# Altium schematic symbol library Sub-board.SCHLIB: 50 symbols
Pins are listed as number, name and electrical type; pins without a type are passive.

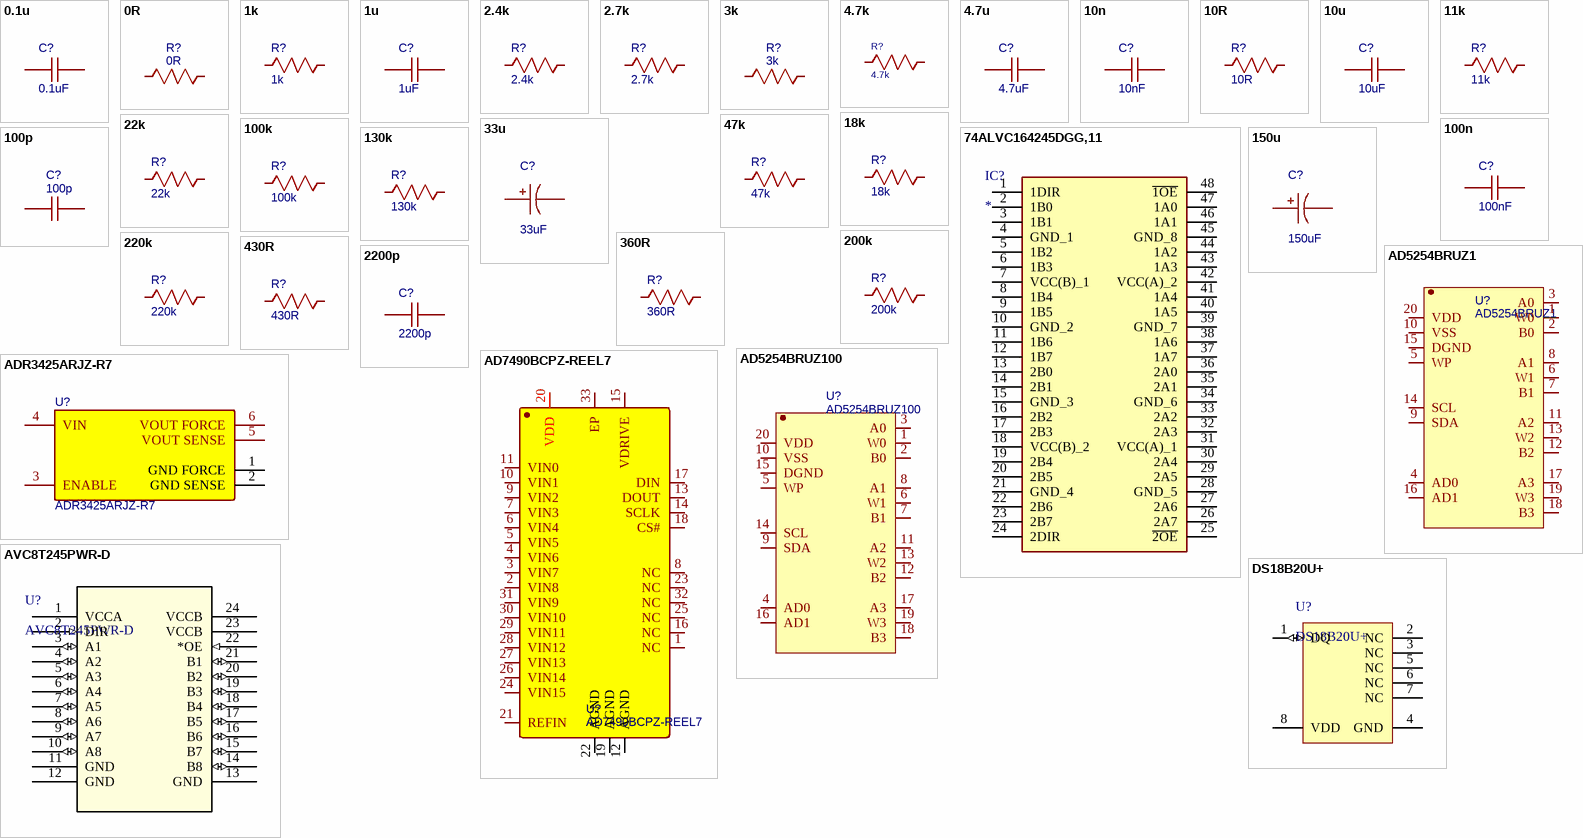
[diagram p0: symbols 0.1u to DS18B20U+]

## 0.1u
designator C?, comment 0.1uF
Contributor: LCEDA_Lib; nameAlias: Value(F); spicePre: C; spiceSymbolName: C_0603_US
footprint C0603
footprint CAP0402
pins: 1, 2

## 0R
designator R?
nameAlias: Value(Ω); Contributor: LCEDA_Lib; spicePre: R; spiceSymbolName: R_0603_US
footprint RES0402
footprint R0603
pins: 1, 2

## 1k
designator R?
nameAlias: Value(Ω); Contributor: LCEDA_Lib; spicePre: R; spiceSymbolName: R_0603_US
footprint R0603
footprint RES0402
pins: 1, 2

## 1u
designator C?, comment 1uF
nameAlias: Value(F); Contributor: LCEDA_Lib; spicePre: C; spiceSymbolName: C_0603_US
footprint CAP0402
footprint C0603
pins: 1, 2

## 2.4k
designator R?
nameAlias: Value(Ω); Contributor: LCEDA_Lib; spicePre: R; spiceSymbolName: R_0603_US
footprint R0603
footprint RES0402
pins: 1, 2

## 2.7k
designator R?
nameAlias: Value(Ω); Contributor: LCEDA_Lib; spicePre: R; spiceSymbolName: R_0603_US
footprint R0603
footprint RES0402
pins: 1, 2

## 3k
designator R?
nameAlias: Value(Ω); Contributor: LCEDA_Lib; spicePre: R; spiceSymbolName: R_0603_US
footprint R0603
footprint RES0402
pins: 1, 2

## 4.7k
designator R?
nameAlias: Value(Ω); Contributor: LCEDA_Lib; spicePre: R; spiceSymbolName: R_0603_US
footprint R0603
footprint RES0402
pins: 1, 2

## 4.7u
designator C?, comment 4.7uF
nameAlias: Value(F); Contributor: LCEDA_Lib; spicePre: C; spiceSymbolName: C_0603_US
footprint CAP0402
footprint C0603
pins: 1, 2

## 10n
designator C?, comment 10nF
nameAlias: Value(F); Contributor: LCEDA_Lib; spicePre: C; spiceSymbolName: C_0603_US
footprint C0603
footprint CAP0402
pins: 1, 2

## 10R
designator R?
nameAlias: Value(Ω); Contributor: LCEDA_Lib; spicePre: R; spiceSymbolName: R_0603_US
footprint R0603
footprint RES0402
pins: 1, 2

## 10u
designator C?, comment 10uF
nameAlias: Value(F); Contributor: LCEDA_Lib; spicePre: C; spiceSymbolName: C_0603_US
footprint C0603
footprint CAP0402
pins: 1, 2

## 11k
designator R?
nameAlias: Value(Ω); Contributor: LCEDA_Lib; spicePre: R; spiceSymbolName: R_0603_US
footprint R0603
footprint RES0402
pins: 1, 2

## 18k
designator R?
nameAlias: Value(Ω); Contributor: LCEDA_Lib; spicePre: R; spiceSymbolName: R_0603_US
footprint R0603
footprint RES0402
pins: 1, 2

## 22k
designator R?
nameAlias: Value(Ω); Contributor: LCEDA_Lib; spicePre: R; spiceSymbolName: R_0603_US
footprint R0603
footprint RES0402
pins: 1, 2

## 33u
designator C?, comment 33uF
nameAlias: Value(F); Contributor: LCEDA_Lib; spicePre: C; spiceSymbolName: C_Tan_SMD_A_US
footprint CASE-A_3216
pins: 1, 2

## 47k
designator R?
nameAlias: Value(Ω); Contributor: LCEDA_Lib; spicePre: R; spiceSymbolName: R_0603_US
footprint R0603
footprint RES0402
pins: 1, 2

## 74ALVC164245DGG,11
designator IC?
Integrated Circuit; Manufacturer_Name: Nexperia; Manufacturer_Part_Number: 74ALVC164245DGG,11; Datasheet Link: https://assets.nexperia.com/documents/data-sheet/74ALVC164245.pdf; Height: 1.2mm; Mouser Part Number: 771-74ALVC16424; Mouser Price/Stock: https://www.mouser.co.uk/ProductDetail/Nexperia/74ALVC164245DGG11/?qs=odJ8N4Y39o7U7wQRxrnAkg%3D%3D; Arrow Part Number: 74ALVC164245DGG,11; Arrow Price/Stock: https://www.arrow.com/en/products/74alvc164245dgg11/nexperia
footprint SOP50P810X120-48N
pins: 1 1DIR, 2 1B0, 3 1B1, 4 GND_1, 5 1B2, 6 1B3, 7 VCC(B)_1, 8 1B4, 9 1B5, 10 GND_2, 11 1B6, 12 1B7, 13 2B0, 14 2B1, 15 GND_3, 16 2B2, 17 2B3, 18 VCC(B)_2, 19 2B4, 20 2B5, 21 GND_4, 22 2B6, 23 2B7, 24 2DIR, 25 ~{2OE}, 26 2A7, 27 2A6, 28 GND_5, 29 2A5, 30 2A4, 31 VCC(A)_1, 32 2A3, 33 2A2, 34 GND_6, 35 2A1, 36 2A0, 37 1A7, 38 1A6, 39 GND_7, 40 1A5, 41 1A4, 42 VCC(A)_2, 43 1A3, 44 1A2, 45 GND_8, 46 1A1, 47 1A0, 48 ~{1OE}

## 100k
designator R?
nameAlias: Value(Ω); Contributor: LCEDA_Lib; spicePre: R; spiceSymbolName: R_0603_US
footprint R0603
footprint RES0402
pins: 1, 2

## 100n
designator C?, comment 100nF
nameAlias: Value(F); Contributor: LCEDA_Lib; spicePre: C; spiceSymbolName: C_0603_US
footprint CAP0402
footprint C0603
pins: 1, 2

## 100p
designator C?
nameAlias: Value(F); Contributor: LCEDA_Lib; spicePre: C; spiceSymbolName: C_0603_US
footprint CAP0402
footprint CAP0402
pins: 1, 2

## 130k
designator R?
nameAlias: Value(Ω); Contributor: LCEDA_Lib; spicePre: R; spiceSymbolName: R_0603_US
footprint R0603
footprint RES0402
pins: 1, 2

## 150u
designator C?, comment 150uF
nameAlias: Value(F); Contributor: LCEDA_Lib; spicePre: C; spiceSymbolName: C_Tan_SMD_A_US
footprint CASE-A_3216
pins: 1, 2

## 200k
designator R?
nameAlias: Value(Ω); Contributor: LCEDA_Lib; spicePre: R; spiceSymbolName: R_0603_US
footprint R0603
footprint RES0402
pins: 1, 2

## 220k
designator R?
nameAlias: Value(Ω); Contributor: LCEDA_Lib; spicePre: R; spiceSymbolName: R_0603_US
footprint R0603
footprint RES0402
pins: 1, 2

## 360R
designator R?
nameAlias: Value(Ω); Contributor: LCEDA_Lib; spicePre: R; spiceSymbolName: R_0603_US
footprint R0603
footprint RES0402
pins: 1, 2

## 430R
designator R?
nameAlias: Value(Ω); Contributor: LCEDA_Lib; spicePre: R; spiceSymbolName: R_0603_US
footprint R0603
footprint RES0402
pins: 1, 2

## 2200p
designator C?
nameAlias: Value(F); Contributor: LCEDA_Lib; spicePre: C; spiceSymbolName: C_0603_US
footprint C0603
footprint CAP0402
pins: 1, 2

## AD5254BRUZ1
designator U?
spicePre: X; spiceSymbolName: AD5254BRUZ1
footprint TSSOP-20
pins: 1 W0, 2 B0, 3 A0, 4 AD0, 5 WP, 6 W1, 7 B1, 8 A1, 9 SDA, 10 VSS, 11 A2, 12 B2, 13 W2, 14 SCL, 15 DGND, 16 AD1, 17 A3, 18 B3, 19 W3, 20 VDD

## AD5254BRUZ100
designator U?
spicePre: X; spiceSymbolName: AD5254BRUZ100
footprint TSSOP-20
pins: 1 W0, 2 B0, 3 A0, 4 AD0, 5 WP, 6 W1, 7 B1, 8 A1, 9 SDA, 10 VSS, 11 A2, 12 B2, 13 W2, 14 SCL, 15 DGND, 16 AD1, 17 A3, 18 B3, 19 W3, 20 VDD

## AD7490BCPZ-REEL7
designator U?
BOM_Manufacturer: Analog Devices; Contributor: LCSC; SMT Type: Extend; BOM_Supplier: LCSC; BOM_Supplier Part: C651094; BOM_Manufacturer Part: AD7490BCPZ-REEL7; BOM_JLCPCB SMD: Yes; spicePre: U; spiceSymbolName: AD7490BCPZ-REEL7
footprint LFCSP-32_L5.0-W5.0-P0.50-BL-EP3.1
pins: 1 NC, 2 VIN8, 3 VIN7, 4 VIN6, 5 VIN5, 6 VIN4, 7 VIN3, 8 NC, 9 VIN2, 10 VIN1, 11 VIN0, 12 AGND, 13 DOUT, 14 SCLK, 15 VDRIVE, 16 NC, 17 DIN, 18 CS#, 19 AGND, 20 VDD, 21 REFIN, 22 AGND, 23 NC, 24 VIN15, 25 NC, 26 VIN14, 27 VIN13, 28 VIN12, 29 VIN11, 30 VIN10, 31 VIN9, 32 NC, 33 EP

## ADR3425ARJZ-R7
designator U?
BOM_Manufacturer: ADI; SMT Type: Extend; BOM_Supplier: LCSC; BOM_Manufacturer Part: ADR3425ARJZ-R7; BOM_Supplier Part: C60864; BOM_JLCPCB SMD: Yes; spicePre: U; spiceSymbolName: ADR3425ARJZ-R7
footprint SOT-23-6_L2.9-W1.6-P0.95-LS2.8-BR
pins: 1 GND FORCE, 2 GND SENSE, 3 ENABLE, 4 VIN, 5 VOUT SENSE, 6 VOUT FORCE

## AVC8T245PWR-D
designator U?
8-Bit Dual-Supply Bus Transceiver with Configurable Voltage Translation and 3-State Outputs; Manufacturer: Texas Instruments; GENERIC_PART_NUMBER: SN74AVC8T245; INDUSTRY_STD_PKG_TYPE: TSSOP; FAMILY_NAME: DIRECTION CONTROL DUAL SUPPLY TRANSLATOR; PIN_COUNT: 24; PACKAGE_DESIGNATOR: PW; Datasheet_URL: http://www.ti.com/lit/gpn/SN74AVC8T245; Vendor: Texas Instruments; Manufacturer_Part_Number: AVC8T245PWR-D; Copyright: Copyright (C) 2018 Accelerated Designs. All rights reserved; RefDes: RefDes; Type: DEV
footprint PW24
pins: 1 VCCA (power), 2 DIR (in), 3 A1 (io), 4 A2 (io), 5 A3 (io), 6 A4 (io), 7 A5 (io), 8 A6 (io), 9 A7 (io), 10 A8 (io), 11 GND (power), 12 GND (power), 13 GND (power), 14 B8 (io), 15 B7 (io), 16 B6 (io), 17 B5 (io), 18 B4 (io), 19 B3 (io), 20 B2 (io), 21 B1 (io), 22 *OE (in), 23 VCCB (power), 24 VCCB (power)

## DS18B20U+
designator U?
High-Precision 1-Wire Digital Thermometer, -55 to 125 degC, 8-Pin SOP (U8+1), Pb-Free; Sensor Type: Local; Multi Droppable: Yes; Temp. Thresh.: Programmable (NV); ComponentLink1Description: Manufacturer URL; ComponentLink2Description: Datasheet; DatasheetVersion: Rev. 4; Generic Part Number: DS18B20; ComponentLink3URL: http://pdfserv.maximintegrated.com/package_dwgs/21-0036.PDF; ComponentLink3Description: Package Specification; ComponentLink1URL: http://www.maximintegrated.com/; ComponentLink2URL: http://datasheets.maximintegrated.com/en/ds/DS18B20.pdf; Code_JEDEC: MO-187; PackageVersion: Rev. L, 08/2009; Parasite Pwr.: Yes; Interface: 1-Wire; PartNumber: DS18B20U+; PackageDescription: 8-Pin Micro-MAX, Thin Shrink Small-Outline (U8+1), Body 3 x 3 mm, Pitch 0.65 mm; Mounting Technology: Surface Mount; RoHS: Pb-Free; PackageReference: U8+1
footprint MAXM-U8+1_M
footprint MAXM-U8+1_N
footprint MAXM-U8+1_L
pins: 1 DQ (io) "Data Input/Output. Open-drain 1-Wire interface pin. Also provides power to the device when used in parasite power mode (see the Powering the DS18B20 section.)", 2 NC "No Connection", 3 NC "No Connection", 4 GND (power) "Ground", 5 NC "No Connection", 6 NC "No Connection", 7 NC "No Connection", 8 VDD (power) "Optional VDD. VDD must be grounded for operation in parasite power mode."

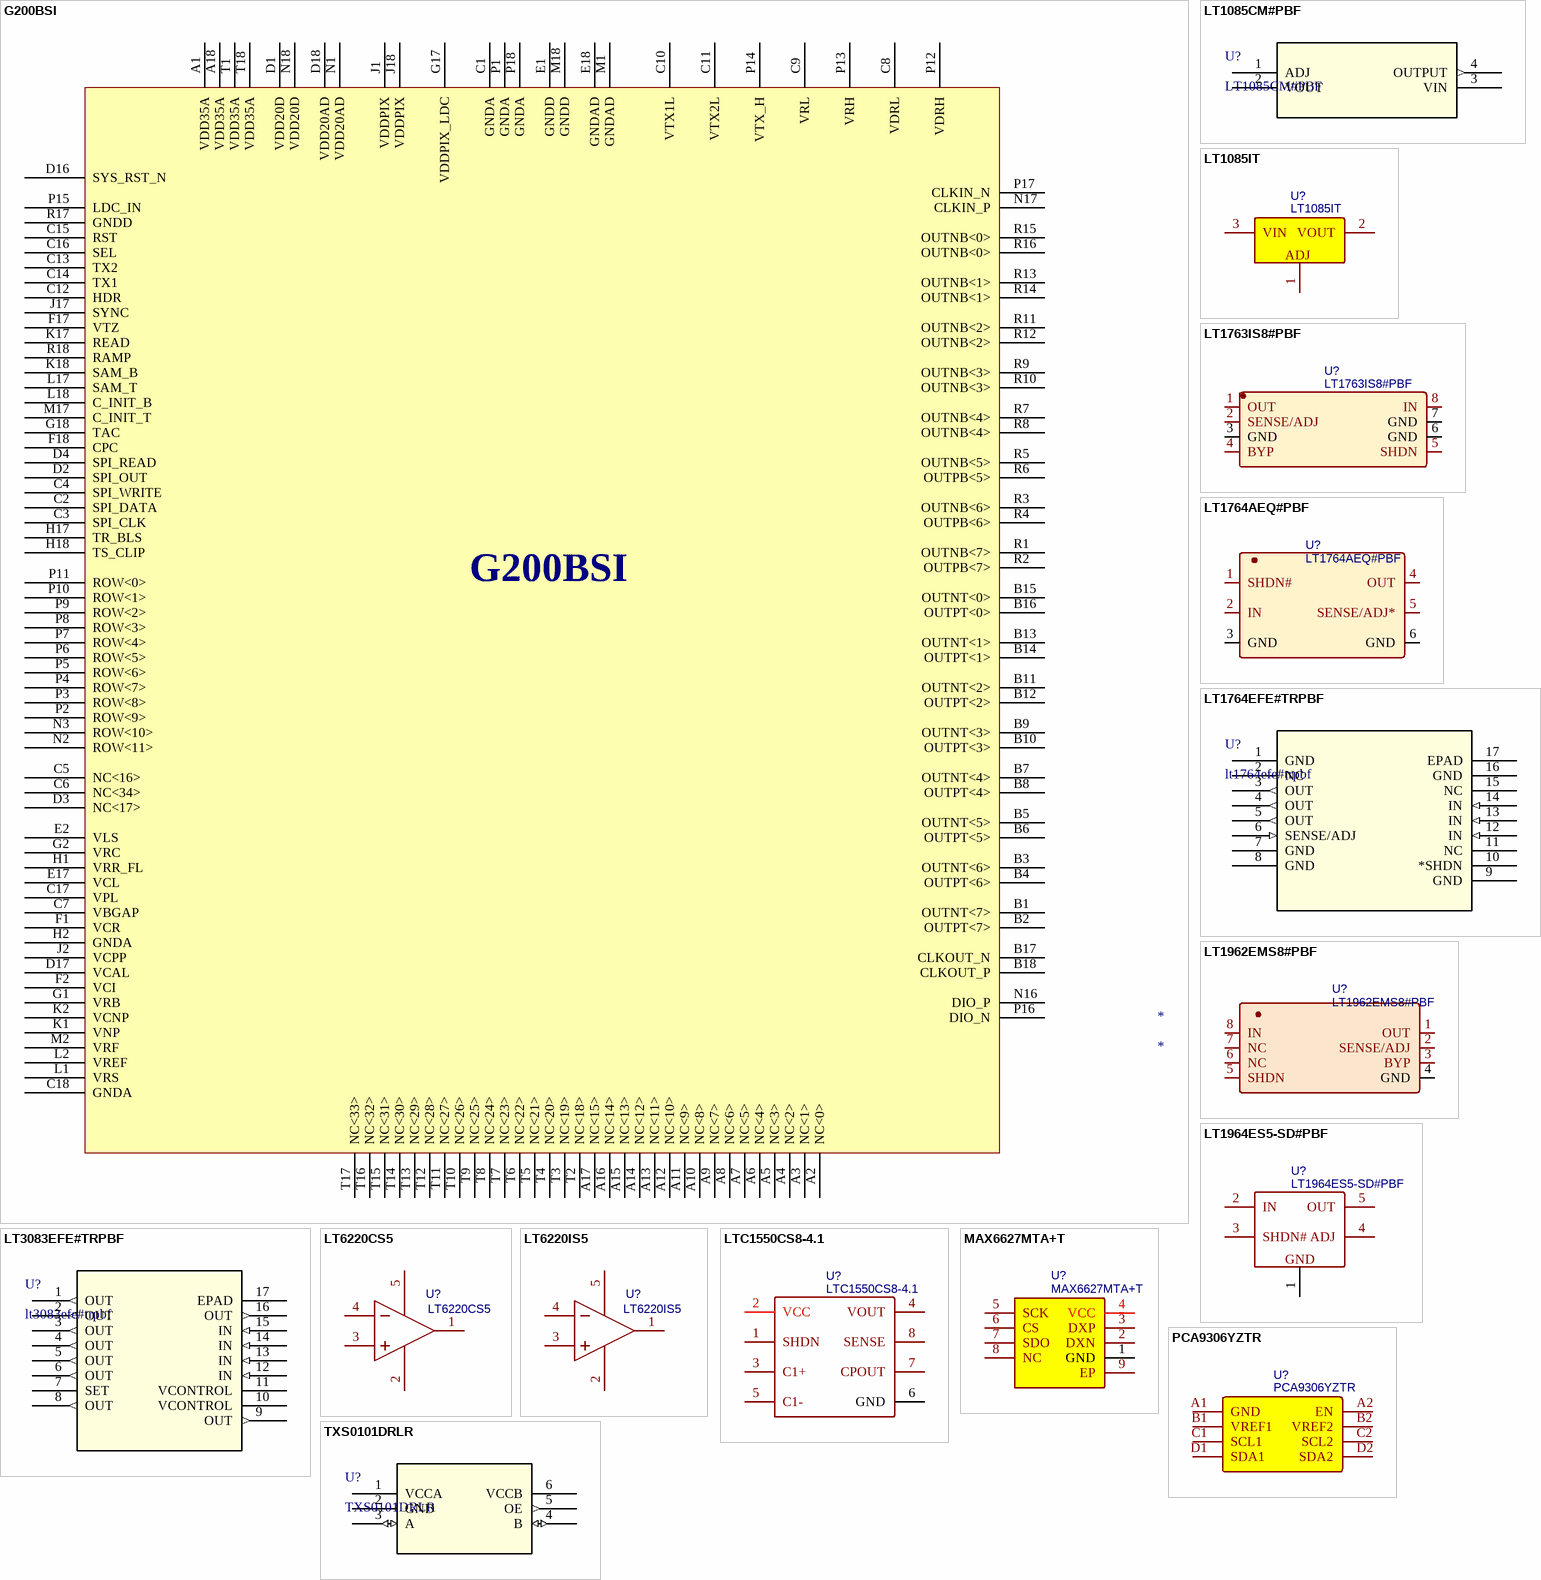
[diagram p1: symbols G200BSI to TXS0101DRLR]

## G200BSI
designator *
footprint ANDON Socket (10-18-04A-153-414T4-R27-L14)
pins: A1 VDD35A, A2 NC<0>, A3 NC<1>, A4 NC<2>, A5 NC<3>, A6 NC<4>, A7 NC<5>, A8 NC<6>, A9 NC<7>, A10 NC<8>, A11 NC<9>, A12 NC<10>, A13 NC<11>, A14 NC<12>, A15 NC<13>, A16 NC<14>, A17 NC<15>, A18 VDD35A, B1 OUTNT<7>, B2 OUTPT<7>, B3 OUTNT<6>, B4 OUTPT<6>, B5 OUTNT<5>, B6 OUTPT<5>, B7 OUTNT<4>, B8 OUTPT<4>, B9 OUTNT<3>, B10 OUTPT<3>, B11 OUTNT<2>, B12 OUTPT<2>, B13 OUTNT<1>, B14 OUTPT<1>, B15 OUTNT<0>, B16 OUTPT<0>, B17 CLKOUT_N, B18 CLKOUT_P, C1 GNDA, C2 SPI_DATA, C3 SPI_CLK, C4 SPI_WRITE, C5 NC<16>, C6 NC<34>, C7 VBGAP, C8 VDRL, C9 VRL, C10 VTX1L, C11 VTX2L, C12 HDR, C13 TX2, C14 TX1, C15 RST, C16 SEL, C17 VPL, C18 GNDA, D1 VDD20D, D2 SPI_OUT, D3 NC<17>, D4 SPI_READ, D16 SYS_RST_N, D17 VCAL, D18 VDD20AD, E1 GNDD, E2 VLS, E17 VCL, E18 GNDAD, F1 VCR, F2 VCI, F17 VTZ, F18 CPC, G1 VRB, G2 VRC, G17 VDDPIX_LDC, G18 TAC, H1 VRR_FL, H2 GNDA, H17 TR_BLS, H18 TS_CLIP, J1 VDDPIX, J2 VCPP, J17 SYNC, J18 VDDPIX, K1 VNP, K2 VCNP, K17 READ, K18 SAM_B, L1 VRS, L2 VREF, L17 SAM_T, L18 C_INIT_B, M1 GNDAD, M2 VRF, M17 C_INIT_T, M18 GNDD, N1 VDD20AD, N2 ROW<11>, N3 ROW<10>, N16 DIO_P, N17 CLKIN_P, N18 VDD20D, P1 GNDA, P2 ROW<9>, P3 ROW<8>, P4 ROW<7>, P5 ROW<6>, P6 ROW<5>, P7 ROW<4>, P8 ROW<3>, P9 ROW<2>, P10 ROW<1>, P11 ROW<0>, P12 VDRH, P13 VRH, P14 VTX_H, P15 LDC_IN, P16 DIO_N, P17 CLKIN_N, P18 GNDA, R1 OUTNB<7>, R2 OUTPB<7>, R3 OUTNB<6>, R4 OUTPB<6>, R5 OUTNB<5>, R6 OUTPB<5>, R7 OUTNB<4>, R8 OUTNB<4>, R9 OUTNB<3>, R10 OUTNB<3>, R11 OUTNB<2>, R12 OUTNB<2>, R13 OUTNB<1>, R14 OUTNB<1>, R15 OUTNB<0>, R16 OUTNB<0>, R17 GNDD, R18 RAMP, T1 VDD35A, T2 NC<18>, T3 NC<19>, T4 NC<20>, T5 NC<21>, T6 NC<22>, T7 NC<23>, T8 NC<24>, T9 NC<25>, T10 NC<26>, T11 NC<27>, T12 NC<28>, T13 NC<29>, T14 NC<30>, T15 NC<31>, T16 NC<32>, T17 NC<33>, T18 VDD35A

## LT1085CM#PBF
designator U?
No Description Available; Vendor: Linear Technology; Digikey_Part_Number: LT1085CM#PBF-ND; Manufacturer_Part_Number: LT1085CM#PBF; Copyright: Copyright (C) 2016 Accelerated Designs. All rights reserved; RefDes: RefDes; Type: DEV
footprint DDPAK-3_M
pins: 1 ADJ, 2 VOUT (power), 3 VIN (power), 4 OUTPUT (out)

## LT1085IT
designator U?
spicePre: U; spiceSymbolName: LT1085IT
footprint LT-T-3
pins: 1 ADJ, 2 VOUT, 3 VIN

## LT1763IS8#PBF
designator U?
BOM_Manufacturer: Linear Tech; Contributor: LCSC; SMT Type: Extend; BOM_Supplier: LCSC; BOM_Supplier Part: C117141; BOM_Manufacturer Part: LT1763IS8#PBF; BOM_JLCPCB SMD: Yes; spicePre: U; spiceSymbolName: LT1763IS8#PBF
footprint SOIC-8_L5.0-W3.2-P1.27-LS8.3-BL
pins: 1 OUT, 2 SENSE/ADJ, 3 GND, 4 BYP, 5 SHDN, 6 GND, 7 GND, 8 IN

## LT1764AEQ#PBF
designator U?
BOM_Manufacturer: Linear Tech; Contributor: LCSC; BOM_Supplier: LCSC; BOM_Supplier Part: C459712; BOM_Manufacturer Part: LT1764AEQ#PBF; spicePre: U; spiceSymbolName: LT1764AEQ#PBF
footprint DD-PAK-5_L10.6-W10.3-P1.70-LS14.5-BR
pins: 1 SHDN#, 2 IN, 3 GND, 4 OUT, 5 SENSE/ADJ*, 6 GND

## LT1764EFE#TRPBF
designator U?, comment lt1764efe#trpbf
No Description Available; Vendor: Linear Technology; Manufacturer_Part_Number: lt1764efe#trpbf; Copyright: Copyright (C) 2018 Accelerated Designs. All rights reserved; RefDes: RefDes; Type: DEV
footprint TSSOP-16_FE/BB
pins: 1 GND (power), 2 NC, 3 OUT (out), 4 OUT (out), 5 OUT (out), 6 SENSE/ADJ (in), 7 GND (power), 8 GND (power), 9 GND (power), 10 *SHDN, 11 NC, 12 IN (in), 13 IN (in), 14 IN (in), 15 NC, 16 GND (power), 17 EPAD

## LT1962EMS8#PBF
designator U?
BOM_Manufacturer: Linear Tech; Contributor: LCSC; SMT Type: Extend; BOM_Supplier: LCSC; BOM_Supplier Part: C136801; BOM_Manufacturer Part: LT1962EMS8#PBF; BOM_JLCPCB SMD: Yes; spicePre: U; spiceSymbolName: LT1962EMS8#PBF
footprint MSOP-8_L3.0-W3.0-P0.65-LS5.0-TL
pins: 1 OUT, 2 SENSE/ADJ, 3 BYP, 4 GND, 5 SHDN, 6 NC, 7 NC, 8 IN

## LT1964ES5-SD#PBF
designator U?
BOM_Manufacturer: LINEAR; SMT Type: Extend; BOM_Supplier: LCSC; BOM_Manufacturer Part: LT1964ES5-SD#PBF; BOM_Supplier Part: C117431; BOM_JLCPCB SMD: Yes; spicePre: U; spiceSymbolName: LT1964ES5-SD#PBF
footprint SOT-23-5_L3.0-W1.7-P0.95-LS2.8-BL
pins: 1 GND, 2 IN, 3 SHDN#, 4 ADJ, 5 OUT

## LT3083EFE#TRPBF
designator U?, comment lt3083efe#trpbf
No Description Available; Vendor: Linear Technology; Manufacturer_Part_Number: lt3083efe#trpbf; Copyright: Copyright (C) 2018 Accelerated Designs. All rights reserved; RefDes: RefDes; Type: DEV
footprint TSSOP-16_FE/BB
pins: 1 OUT (out), 2 OUT (out), 3 OUT (out), 4 OUT (out), 5 OUT (out), 6 OUT (out), 7 SET, 8 OUT (out), 9 OUT (out), 10 VCONTROL, 11 VCONTROL, 12 IN (in), 13 IN (in), 14 IN (in), 15 IN (in), 16 OUT (out), 17 EPAD

## LT6220CS5
designator U?
spicePre: U; spiceSymbolName: LT6220CS5
footprint SOT23-5
pins: 1 VOUT, 2 VS-, 3 +IN, 4 -IN, 5 VS+

## LT6220IS5
designator U?
spicePre: U; spiceSymbolName: LT6220IS5
footprint SOT23-5
pins: 1 VOUT, 2 VS-, 3 +IN, 4 -IN, 5 VS+

## LTC1550CS8-4.1
designator U?
spicePre: U; spiceSymbolName: LTC1550CS8-4.1
footprint SOIC8
pins: 1 SHDN, 2 VCC, 3 C1+, 4 VOUT, 5 C1-, 6 GND, 7 CPOUT, 8 SENSE

## MAX6627MTA+T
designator U?
spicePre: U; spiceSymbolName: MAX6627MTA+T
footprint MAXM-T833+2_V
pins: 1 GND, 2 DXN, 3 DXP, 4 VCC, 5 SCK, 6 CS, 7 SDO, 8 NC, 9 EP

## PCA9306YZTR
designator U?
BOM_Manufacturer: Texas Instruments; Contributor: LCSC; BOM_Supplier: LCSC; BOM_Supplier Part: C414602; BOM_Manufacturer Part: PCA9306YZTR; spicePre: U; spiceSymbolName: PCA9306YZTR
footprint DSBGA-8_L1.8-W0.9-TL
pins: A1 GND, A2 EN, B1 VREF1, B2 VREF2, C1 SCL1, C2 SCL2, D1 SDA1, D2 SDA2

## TXS0101DRLR
designator U?
1-Bit Bidirectional Voltage-Level Translator for Open-Drain Application; Vendor: Texas Instruments; PACKAGE_DESIGNATOR: DRL; PIN_COUNT: 6; FAMILY_NAME: AUTO DIRECTION SENSING DUAL SUPPLY TRANSLATOR; INDUSTRY_STD_PKG_TYPE: SOT; Manufacturer_Part_Number: TXS0101DRLR; GENERIC_PART_NUMBER: TXS0101; Datasheet_URL: http://www.ti.com/lit/gpn/TXS0101; Manufacturer: Texas Instruments; Copyright: Copyright (C) 2018 Accelerated Designs. All rights reserved; RefDes: RefDes; Type: DEV
footprint DRL6
pins: 1 VCCA (power), 2 GND (power), 3 A (io), 4 B (io), 5 OE (out), 6 VCCB (power)

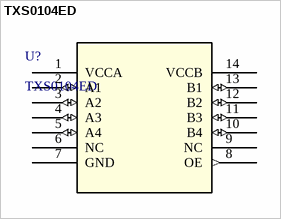
[diagram p2: symbol TXS0104ED]

## TXS0104ED
designator U?
4-Bit Bidirectional Voltage-Level Translator for Open-Drain Applications; Vendor: Texas Instruments; PACKAGE_DESIGNATOR: D; PIN_COUNT: 14; FAMILY_NAME: AUTO DIRECTION SENSING DUAL SUPPLY TRANSLATOR; INDUSTRY_STD_PKG_TYPE: SOIC; Manufacturer_Part_Number: TXS0104ED; GENERIC_PART_NUMBER: TXS0104E; Datasheet_URL: http://www.ti.com/lit/gpn/TXS0104E; Manufacturer: Texas Instruments; Copyright: Copyright (C) 2018 Accelerated Designs. All rights reserved; RefDes: RefDes; Type: DEV
footprint D14
pins: 1 VCCA (power), 2 A1 (io), 3 A2 (io), 4 A3 (io), 5 A4 (io), 6 NC, 7 GND (power), 8 OE (out), 9 NC, 10 B4 (io), 11 B3 (io), 12 B2 (io), 13 B1 (io), 14 VCCB (power)